# EAGLE library part STM32F429ZIT6 (library mbed-HDK-MF-ST)
ARM® Cortex®-M4 STM32 F4 Microcontroller IC 32-Bit 180MHz 2MB (2M x 8) FLASH
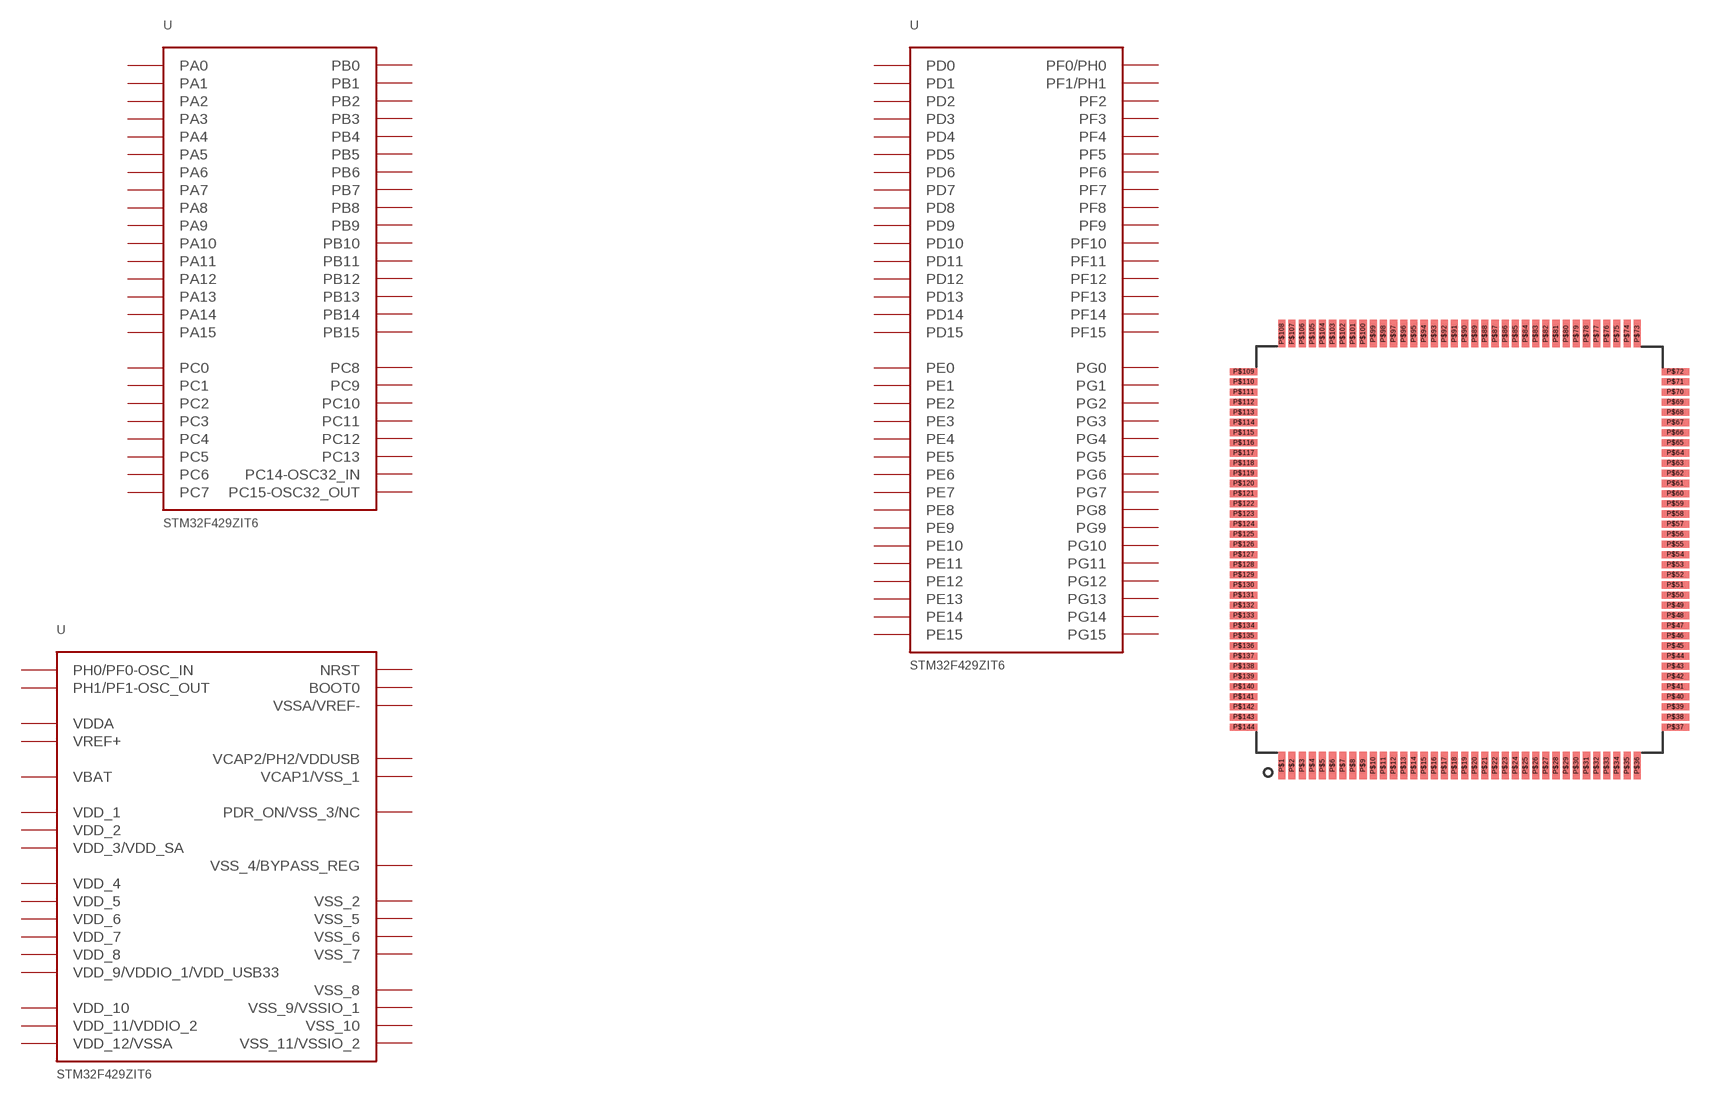
[diagram p0: symbol with the pads of LQFP144; footprint LQFP144]

Designator prefix U

## STM32F429ZIT6 (MF: STMicroelectronics; MFN: STM32F429ZIT6; OC-DIGIKEY: 497-14053-ND; OC-MOUSER: 511-STM32F429ZIT6; OC-NEWARK: 39X0207)  [LQFP144]
P$1  PE2
P$2  PE3
P$3  PE4
P$4  PE5
P$5  PE6
P$6  VBAT
P$7  PC13
P$8  PC14-OSC32_IN
P$9  PC15-OSC32_OUT
P$10  PF0/PH0
P$11  PF1/PH1
P$12  PF2
P$13  PF3
P$14  PF4
P$15  PF5
P$16  VSS_5
P$17  VDD_5
P$18  PF6
P$19  PF7
P$20  PF8
P$21  PF9
P$22  PF10
P$23  PH0/PF0-OSC_IN
P$24  PH1/PF1-OSC_OUT
P$25  NRST
P$26  PC0
P$27  PC1
P$28  PC2
P$29  PC3
P$30  VDD_12/VSSA
P$31  VSSA/VREF-
P$32  VREF+
P$33  VDDA
P$34  PA0
P$35  PA1
P$36  PA2
P$37  PA3
P$38  VSS_4/BYPASS_REG
P$39  VDD_4
P$40  PA4
P$41  PA5
P$42  PA6
P$43  PA7
P$44  PC4
P$45  PC5
P$46  PB0
P$47  PB1
P$48  PB2
P$49  PF11
P$50  PF12
P$51  VSS_6
P$52  VDD_6
P$53  PF13
P$54  PF14
P$55  PF15
P$56  PG0
P$57  PG1
P$58  PE7
P$59  PE8
P$60  PE9
P$61  VSS_7
P$62  VDD_7
P$63  PE10
P$64  PE11
P$65  PE12
P$66  PE13
P$67  PE14
P$68  PE15
P$69  PB10
P$70  PB11
P$71  VCAP1/VSS_1
P$72  VDD_1
P$73  PB12
P$74  PB13
P$75  PB14
P$76  PB15
P$77  PD8
P$78  PD9
P$79  PD10
P$80  PD11
P$81  PD12
P$82  PD13
P$83  VSS_8
P$84  VDD_8
P$85  PD14
P$86  PD15
P$87  PG2
P$88  PG3
P$89  PG4
P$90  PG5
P$91  PG6
P$92  PG7
P$93  PG8
P$94  VSS_9/VSSIO_1
P$95  VDD_9/VDDIO_1/VDD_USB33
P$96  PC6
P$97  PC7
P$98  PC8
P$99  PC9
P$100  PA8
P$101  PA9
P$102  PA10
P$103  PA11
P$104  PA12
P$105  PA13
P$106  VCAP2/PH2/VDDUSB
P$107  VSS_2
P$108  VDD_2
P$109  PA14
P$110  PA15
P$111  PC10
P$112  PC11
P$113  PC12
P$114  PD0
P$115  PD1
P$116  PD2
P$117  PD3
P$118  PD4
P$119  PD5
P$120  VSS_10
P$121  VDD_10
P$122  PD6
P$123  PD7
P$124  PG9
P$125  PG10
P$126  PG11
P$127  PG12
P$128  PG13
P$129  PG14
P$130  VSS_11/VSSIO_2
P$131  VDD_11/VDDIO_2
P$132  PG15
P$133  PB3
P$134  PB4
P$135  PB5
P$136  PB6
P$137  PB7
P$138  BOOT0
P$139  PB8
P$140  PB9
P$141  PE0
P$142  PE1
P$143  PDR_ON/VSS_3/NC
P$144  VDD_3/VDD_SA

## Footprint LQFP144 (pad centres in mm)
smd 0.35 x 1.35: P$1 0,0; P$2 0.5,0; P$3 1,0; P$4 1.5,0; P$5 2,0; P$6 2.5,0; P$7 3,0; P$8 3.5,0; P$9 4,0; P$10 4.5,0; P$11 5,0; P$12 5.5,0; P$13 6,0; P$14 6.5,0; P$15 7,0; P$16 7.5,0; P$17 8,0; P$18 8.5,0; P$19 9,0; P$20 9.5,0; P$21 10,0; P$22 10.5,0; P$23 11,0; P$24 11.5,0; P$25 12,0; P$26 12.5,0; P$27 13,0; P$28 13.5,0; P$29 14,0; P$30 14.5,0; P$31 15,0; P$32 15.5,0; P$33 16,0; P$34 16.5,0; P$35 17,0; P$36 17.5,0; P$73 17.5,21.25; P$74 17,21.25; P$75 16.5,21.25; P$76 16,21.25; P$77 15.5,21.25; P$78 15,21.25; P$79 14.5,21.25; P$80 14,21.25; P$81 13.5,21.25; P$82 13,21.25; P$83 12.5,21.25; P$84 12,21.25; P$85 11.5,21.25; P$86 11,21.25; P$87 10.5,21.25; P$88 10,21.25; P$89 9.5,21.25; P$90 9,21.25; P$91 8.5,21.25; P$92 8,21.25; P$93 7.5,21.25; P$94 7,21.25; P$95 6.5,21.25; P$96 6,21.25; P$97 5.5,21.25; P$98 5,21.25; P$99 4.5,21.25; P$100 4,21.25; P$101 3.5,21.25; P$102 3,21.25; P$103 2.5,21.25; P$104 2,21.25; P$105 1.5,21.25; P$106 1,21.25; P$107 0.5,21.25; P$108 0,21.25
smd 1.35 x 0.35: P$37 19.375,1.875; P$38 19.375,2.375; P$39 19.375,2.875; P$40 19.375,3.375; P$41 19.375,3.875; P$42 19.375,4.375; P$43 19.375,4.875; P$44 19.375,5.375; P$45 19.375,5.875; P$46 19.375,6.375; P$47 19.375,6.875; P$48 19.375,7.375; P$49 19.375,7.875; P$50 19.375,8.375; P$51 19.375,8.875; P$52 19.375,9.375; P$53 19.375,9.875; P$54 19.375,10.375; P$55 19.375,10.875; P$56 19.375,11.375; P$57 19.375,11.875; P$58 19.375,12.375; P$59 19.375,12.875; P$60 19.375,13.375; P$61 19.375,13.875; P$62 19.375,14.375; P$63 19.375,14.875; P$64 19.375,15.375; P$65 19.375,15.875; P$66 19.375,16.375; P$67 19.375,16.875; P$68 19.375,17.375; P$69 19.375,17.875; P$70 19.375,18.375; P$71 19.375,18.875; P$72 19.375,19.375; P$109 -1.875,19.375; P$110 -1.875,18.875; P$111 -1.875,18.375; P$112 -1.875,17.875; P$113 -1.875,17.375; P$114 -1.875,16.875; P$115 -1.875,16.375; P$116 -1.875,15.875; P$117 -1.875,15.375; P$118 -1.875,14.875; P$119 -1.875,14.375; P$120 -1.875,13.875; P$121 -1.875,13.375; P$122 -1.875,12.875; P$123 -1.875,12.375; P$124 -1.875,11.875; P$125 -1.875,11.375; P$126 -1.875,10.875; P$127 -1.875,10.375; P$128 -1.875,9.875; P$129 -1.875,9.375; P$130 -1.875,8.875; P$131 -1.875,8.375; P$132 -1.875,7.875; P$133 -1.875,7.375; P$134 -1.875,6.875; P$135 -1.875,6.375; P$136 -1.875,5.875; P$137 -1.875,5.375; P$138 -1.875,4.875; P$139 -1.875,4.375; P$140 -1.875,3.875; P$141 -1.875,3.375; P$142 -1.875,2.875; P$143 -1.875,2.375; P$144 -1.875,1.875